# Altium footprint library MaxLinearSP6669.PcbLib: 3 footprints
Each footprint in its own frame and in the unit in brackets; x right, y up, seen from the top. Pads: shape width x height; smd on the part's side, far side on the other; paste and mask are expansions set on the pad; w line width, h text height; cw(c..) or ccw(c..) is an arc to the next point about the centre after c.
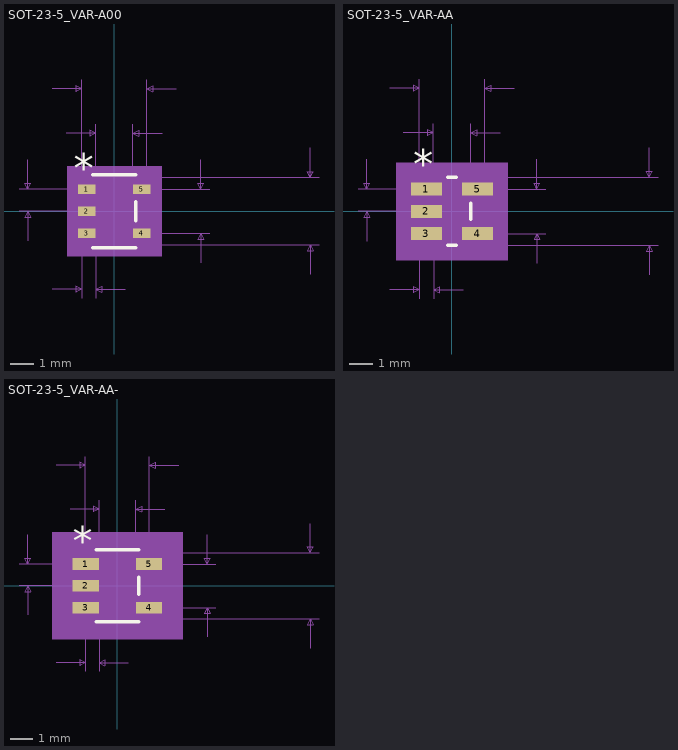
[diagram p0: the footprints below, top view; thin cyan lines are the x and y axes]

## SOT-23-5_VAR-A00 [mil]
pads (5):
  rect 29.5x16 smd paste+0 mask+0: 1(-46.25,37.4) 2(-46.25,0) 3(-46.25,-37.4) 4(46.25,-37.4) 5(46.25,37.4)
Top Overlay:
  lines w6: -36.5,-62 36.5,-62 ; -36.5,62 36.5,62 ; 36.5,-16.3 36.5,16.3
  text "*" at -68.75,48.4 h50
Mechanical 5:
  region: 80,-76 -80,-76 -80,76 80,76
Mechanical 7:
  lines w1: -161.25,0 -46.25,0 ; -161.25,37.4 -46.25,37.4 ; -146.25,-50 -146.25,0 ; -146.25,87.4 -146.25,37.4 ; -105,-132 -55,-132 ; -105,207 -55,207 ; -81.5,132 -31.5,132 ; -55,-147 -55,0 -55,222 ; -31.5,-147 -31.5,0 -31.5,147 ; 0,-57 346.5,-57 ; 0,57 346.5,57 ; 18.5,-132 -31.5,-132 ; 31.5,0 31.5,147 ; 46.25,-37.4 161.25,-37.4 ; 46.25,37.4 161.25,37.4 ; 55,0 55,222 ; 81.5,132 31.5,132 ; 105,207 55,207 ; 146.25,-87.4 146.25,-37.4 ; 146.25,87.4 146.25,37.4 ; 331.5,-107 331.5,-57 ; 331.5,107 331.5,57 ; -146.25,0 -151.25,-10 -141.25,-10 -146.25,0 ; -146.25,37.4 -151.25,47.4 -141.25,47.4 -146.25,37.4 ; -55,-132 -65,-127 -65,-137 -55,-132 ; -55,207 -65,212 -65,202 -55,207 ; -31.5,-132 -21.5,-127 -21.5,-137 -31.5,-132 ; -31.5,132 -41.5,137 -41.5,127 -31.5,132 ; 31.5,132 41.5,137 41.5,127 31.5,132 ; 55,207 65,212 65,202 55,207 ; 146.25,-37.4 141.25,-47.4 151.25,-47.4 146.25,-37.4 ; 146.25,37.4 141.25,47.4 151.25,47.4 146.25,37.4 ; 331.5,-57 326.5,-67 336.5,-67 331.5,-57 ; 331.5,57 326.5,67 336.5,67 331.5,57
  text "Pin One Padstyle: RX29p5Y16D0T" at -375,-317 h50
  text "Default Padstyle: RX29p5Y16D0T" at -375,-257 h50
  text "Alt 1 Padstyle: OX60Y90D30P" at -337.5,-497 h50
  text "Alt 2 Padstyle: OX90Y60D30P" at -337.5,-557 h50
  text "0.063in/1.6mm" at -81.25,152 h25
  text "0.11in/2.794mm" at -87.5,227 h25
  text "0.114in/2.896mm" at 351.5,-12.5 h25
  text "0.037in/0.95mm" at -341.25,6.2 h25
  text "0.075in/1.9mm" at 166.25,-12.5 h25
  text "0.024in/0.61mm" at -130.75,-177 h25
Mechanical 13:
  lines w0: -12,57 ccw(c0,57) 12,57
  lines w1: -55,-47.4 -55,-27.4 -31.5,-27.4 -31.5,-47.4 -55,-47.4 ; -55,-10 -55,10 -31.5,10 -31.5,-10 -55,-10 ; -55,27.4 -55,47.4 -31.5,47.4 -31.5,27.4 -55,27.4 ; -31.5,-57 31.5,-57 31.5,57 -31.5,57 -31.5,-57 ; 31.5,-47.4 31.5,-27.4 55,-27.4 55,-47.4 31.5,-47.4 ; 31.5,27.4 31.5,47.4 55,47.4 55,27.4 31.5,27.4
  text "*" at -34,5.4 h50
Mechanical 15:
  region: 35.5,-61 -35.5,-61 -35.5,-43.4 -63,-43.4 -63,43.4 -35.5,43.4 -35.5,61 35.5,61 35.5,43.4 63,43.4 63,-43.4 35.5,-43.4
  lines w6: -63,-43.4 -35.5,-43.4 -35.5,-61 35.5,-61 35.5,-43.4 63,-43.4 63,43.4 35.5,43.4 35.5,61 -35.5,61 -35.5,43.4 -63,43.4 -63,-43.4
3D body: height 10, standoff 0, extent 0,0 10,10

## SOT-23-5_VAR-AA [mil]
pads (5):
  rect 52x22 smd mask+0: 1(-43,37.4) 2(-43,0) 3(-43,-37.4) 4(43,-37.4) 5(43,37.4)
Top Overlay:
  lines w6: -7.12,-57 7.12,-57 ; -7.12,57 7.12,57 ; 31.5,-13.3 31.5,13.3
  text "*" at -65.5,54.4 h50
Mechanical 5:
  region: 94,-82 -94,-82 -94,82 94,82
Mechanical 7:
  lines w1: -158,0 -43,0 ; -158,37.4 -43,37.4 ; -143,-50 -143,0 ; -143,87.4 -143,37.4 ; -105,-132 -55,-132 ; -105,207 -55,207 ; -81.5,132 -31.5,132 ; -55,-147 -55,0 -55,222 ; -31.5,0 -31.5,147 ; -31,-147 -31,0 ; 0,-57 346.5,-57 ; 0,57 346.5,57 ; 19,-132 -31,-132 ; 31.5,0 31.5,147 ; 43,-37.4 158,-37.4 ; 43,37.4 158,37.4 ; 55,0 55,222 ; 81.5,132 31.5,132 ; 105,207 55,207 ; 143,-87.4 143,-37.4 ; 143,87.4 143,37.4 ; 331.5,-107 331.5,-57 ; 331.5,107 331.5,57 ; -143,0 -148,-10 -138,-10 -143,0 ; -143,37.4 -148,47.4 -138,47.4 -143,37.4 ; -55,-132 -65,-127 -65,-137 -55,-132 ; -55,207 -65,212 -65,202 -55,207 ; -31.5,132 -41.5,137 -41.5,127 -31.5,132 ; -31,-132 -21,-127 -21,-137 -31,-132 ; 31.5,132 41.5,137 41.5,127 31.5,132 ; 55,207 65,212 65,202 55,207 ; 143,-37.4 138,-47.4 148,-47.4 143,-37.4 ; 143,37.4 138,47.4 148,47.4 143,37.4 ; 331.5,-57 326.5,-67 336.5,-67 331.5,-57 ; 331.5,57 326.5,67 336.5,67 331.5,57
  text "Default Padstyle: RX52Y22D0TSM2" at -387.5,-257 h50
  text "Pin One Padstyle: RX52Y22D0TSM2" at -387.5,-317 h50
  text "Alt 1 Padstyle: OX60Y90D30P" at -337.5,-437 h50
  text "Alt 2 Padstyle: OX90Y60D30P" at -337.5,-497 h50
  text "0.063in/1.6mm" at -81.25,152 h25
  text "0.11in/2.794mm" at -87.5,227 h25
  text "0.114in/2.896mm" at 351.5,-12.5 h25
  text "0.037in/0.95mm" at -338,6.2 h25
  text "0.075in/1.9mm" at 163,-12.5 h25
  text "0.024in/0.61mm" at -130.5,-177 h25
Mechanical 13:
  lines w0: -12,57 ccw(c0,57) 12,57
  lines w1: -55,-47.4 -55,-27.4 -31.5,-27.4 -31.5,-47.4 -55,-47.4 ; -55,-10 -55,10 -31.5,10 -31.5,-10 -55,-10 ; -55,27.4 -55,47.4 -31.5,47.4 -31.5,27.4 -55,27.4 ; -31.5,-57 31.5,-57 31.5,57 -31.5,57 -31.5,-57 ; 31.5,-47.4 31.5,-27.4 55,-27.4 55,-47.4 31.5,-47.4 ; 31.5,27.4 31.5,47.4 55,47.4 55,27.4 31.5,27.4
  text "*" at -65.5,54.4 h50
Mechanical 15:
  region: 79,-67 -79,-67 -79,67 79,67
  lines w6: -79,-67 -79,67 79,67 79,-67 -79,-67
3D body: height 10, standoff 0, extent 0,0 10,10

## SOT-23-5_VAR-AA- [mil]
pads (5):
  rect 45.5x20 smd paste+0 mask+0: 1(-54.25,37.4) 2(-54.25,0) 3(-54.25,-37.4) 4(54.25,-37.4) 5(54.25,37.4)
Top Overlay:
  lines w6: -36.5,-62 36.5,-62 ; -36.5,62 36.5,62 ; 36.5,-14.3 36.5,14.3
  text "*" at -76.75,52.4 h50
Mechanical 5:
  region: 112,-92 -112,-92 -112,92 112,92
Mechanical 7:
  lines w1: -169.25,0 -54.25,0 ; -169.25,37.4 -54.25,37.4 ; -154.25,-50 -154.25,0 ; -154.25,87.4 -154.25,37.4 ; -105,-132 -55,-132 ; -105,207 -55,207 ; -81.5,132 -31.5,132 ; -55,-147 -55,0 -55,222 ; -31.5,-147 -31.5,0 -31.5,147 ; 0,-57 346.5,-57 ; 0,57 346.5,57 ; 18.5,-132 -31.5,-132 ; 31.5,0 31.5,147 ; 54.25,-37.4 169.25,-37.4 ; 54.25,37.4 169.25,37.4 ; 55,0 55,222 ; 81.5,132 31.5,132 ; 105,207 55,207 ; 154.25,-87.4 154.25,-37.4 ; 154.25,87.4 154.25,37.4 ; 331.5,-107 331.5,-57 ; 331.5,107 331.5,57 ; -154.25,0 -159.25,-10 -149.25,-10 -154.25,0 ; -154.25,37.4 -159.25,47.4 -149.25,47.4 -154.25,37.4 ; -55,-132 -65,-127 -65,-137 -55,-132 ; -55,207 -65,212 -65,202 -55,207 ; -31.5,-132 -21.5,-127 -21.5,-137 -31.5,-132 ; -31.5,132 -41.5,137 -41.5,127 -31.5,132 ; 31.5,132 41.5,137 41.5,127 31.5,132 ; 55,207 65,212 65,202 55,207 ; 154.25,-37.4 149.25,-47.4 159.25,-47.4 154.25,-37.4 ; 154.25,37.4 149.25,47.4 159.25,47.4 154.25,37.4 ; 331.5,-57 326.5,-67 336.5,-67 331.5,-57 ; 331.5,57 326.5,67 336.5,67 331.5,57
  text "Pin One Padstyle: RX45p5Y20D0T" at -375,-317 h50
  text "Default Padstyle: RX45p5Y20D0T" at -375,-257 h50
  text "Alt 1 Padstyle: OX60Y90D30P" at -337.5,-497 h50
  text "Alt 2 Padstyle: OX90Y60D30P" at -337.5,-557 h50
  text "0.063in/1.6mm" at -81.25,152 h25
  text "0.11in/2.794mm" at -87.5,227 h25
  text "0.114in/2.896mm" at 351.5,-12.5 h25
  text "0.037in/0.95mm" at -349.25,6.2 h25
  text "0.075in/1.9mm" at 174.25,-12.5 h25
  text "0.024in/0.61mm" at -130.75,-177 h25
Mechanical 13:
  lines w0: -12,57 ccw(c0,57) 12,57
  lines w1: -55,-47.4 -55,-27.4 -31.5,-27.4 -31.5,-47.4 -55,-47.4 ; -55,-10 -55,10 -31.5,10 -31.5,-10 -55,-10 ; -55,27.4 -55,47.4 -31.5,47.4 -31.5,27.4 -55,27.4 ; -31.5,-57 31.5,-57 31.5,57 -31.5,57 -31.5,-57 ; 31.5,-47.4 31.5,-27.4 55,-27.4 55,-47.4 31.5,-47.4 ; 31.5,27.4 31.5,47.4 55,47.4 55,27.4 31.5,27.4
  text "*" at -34,9.4 h50
Mechanical 15:
  region: 51.5,-77 -51.5,-77 -51.5,-67.4 -95,-67.4 -95,67.4 -51.5,67.4 -51.5,77 51.5,77 51.5,67.4 95,67.4 95,-67.4 51.5,-67.4
  lines w6: -95,-67.4 -51.5,-67.4 -51.5,-77 51.5,-77 51.5,-67.4 95,-67.4 95,67.4 51.5,67.4 51.5,77 -51.5,77 -51.5,67.4 -95,67.4 -95,-67.4
3D body: height 10, standoff 0, extent 0,0 10,10